# EAGLE library part 6570XX240201_657012240201 (library WR-MPC5)
WR-MPC5 5.70 mm Male Header Dual Row Vertical with Snap-in Plastic Pegs Kind Properties Pitch 5.7 mm Rows Dual Type Vertical Operating Temperature -40 up to +105 °C Durability 25 Mating cycles Material Properties Insulator Material LCP Insulator Flammability Rating UL94 V-0 Insulator Color Black Pin Material Copper Alloy Pin Plating Tin over Nickel Packaging Properties Packaging Tray Electric Properties IR 26 A Working Voltage 600 V (AC) Withstanding Voltage 2200 V (AC) Contact Resistance 2 mΩ Certification REACh Approval Conform or declared [(EC)1907/2006] RoHS Approval Compliant [2011/65/EU&2015/863] UL Approval E323964 <https://www.we-online.com/components/media/o731511v209%20WR-MPC5_6570xx240201_Multi-parts.jpg> Details see: www.we-online.com/components/products/WR_MPC5_5_70_MM_MALE_HEADER_DUAL_ROW_VERTICAL_WITH_SNAP_IN_PLASTIC_PEGS <www.we-online.com/catalog/WR_MPC5_5_70_MM_MALE_HEADER_DUAL_ROW_VERTICAL_WITH_SNAP_IN_PLASTIC_PEGS/?utm_source=eagle_model&utm_medium=description_link&utm_campaign=eisos_eagle> Updated by Ella 2023-10-09 2023 (C) Würth Elektronik
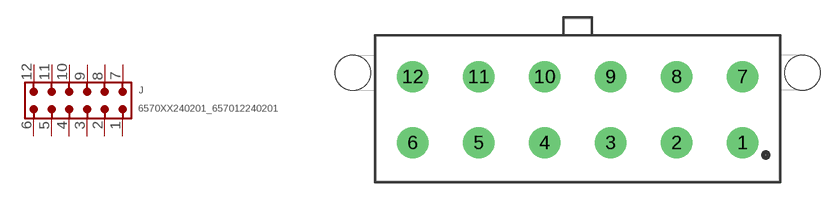
[diagram p25: symbol with the pads of 657012240201; footprint 657012240201]

Designator prefix J

## 6570XX240201_657012240201 (CONTACT-RESISTANCE: 2mOhm; DATASHEET-URL: https://www.we-online.com/redexpert/spec/657012240201?ae; GENDER: Male; IR: 26A; MOUNT: THT; PART-NUMBER: 657012240201; PITCH: 5.7mm; POLARITY: 12; ROWS: Dual; TYPE: Vertical; VALUE: 657012240201; WORKING-VOLTAGE: 600V (AC))  [657012240201]
1  1  pas
2  2  pas
3  3  pas
4  4  pas
5  5  pas
6  6  pas
7  7  pas
8  8  pas
9  9  pas
10  10  pas
11  11  pas
12  12  pas

## Footprint 657012240201 (pad centres in mm)
WR-MPC5 THT Dual Row Male Header Vertical with Pegs THT, 12pins
drill 1.8: 1 14.25,-2.85; 2 8.55,-2.85; 3 2.85,-2.85; 4 -2.85,-2.85; 5 -8.55,-2.85; 6 -14.25,-2.85; 7 14.25,2.85; 8 8.55,2.85; 9 2.85,2.85; 10 -2.85,2.85; 11 -8.55,2.85; 12 -14.25,2.85
hole 3.05 at -19.43,3.19
hole 3.05 at 19.43,3.19